# EAGLE library part MCP1726-5002E/MF (library SW_LDO)
Linear Voltage Regulator IC Positive Fixed 1 Output 1A 8-DFN (3x3)
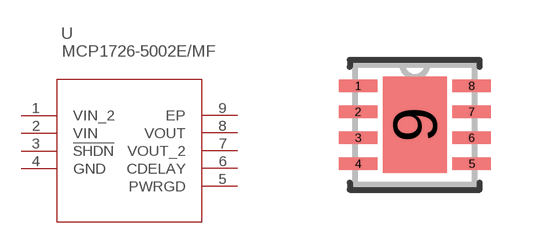
[diagram p0: symbol with the pads of DFN8_3X3MC_MCH-M; footprint DFN8_3X3MC_MCH-M]

Designator prefix U

## MCP1726-5002E/MFDFN8_3X3MC_MCH-M (CATEGORY: Power; DESCRIPTION: Linear Voltage Regulator IC Positive Fixed 1 Output 1A 8-DFN (3x3); MFGS: Microchip,Microchip; MPNS: MCP1726-5002E/MF,MCP1726T-5002E/MF; PACKAGE: 8-DFN; PART_NUMBER: MCP1726-5002E/MF-ND; SW_PART_NUMBER: SW0000825)  [DFN8_3X3MC_MCH-M]
1  VIN_2  pas
2  VIN  pas
3  !SHDN  pas
4  GND  pas
5  PWRGD  pas
6  CDELAY  pas
7  VOUT_2  pas
8  VOUT  pas
9  EP  pas

## Footprint DFN8_3X3MC_MCH-M (pad centres in mm)
smd 0.965 x 0.305: 1 -1.422,0.975; 2 -1.422,0.325; 3 -1.422,-0.325; 4 -1.422,-0.975; 5 1.422,-0.975; 6 1.422,-0.325; 7 1.422,0.325; 8 1.422,0.975
smd 1.6 x 2.413: 9 0,0